# Altium footprint library JLCPCB_DIODE_Packages_SMD.PcbLib: 1 footprints
Each footprint in its own frame and in the unit in brackets; x right, y up, seen from the top. Pads: shape width x height; smd on the part's side, far side on the other; paste and mask are expansions set on the pad; w line width, h text height; cw(c..) or ccw(c..) is an arc to the next point about the centre after c.
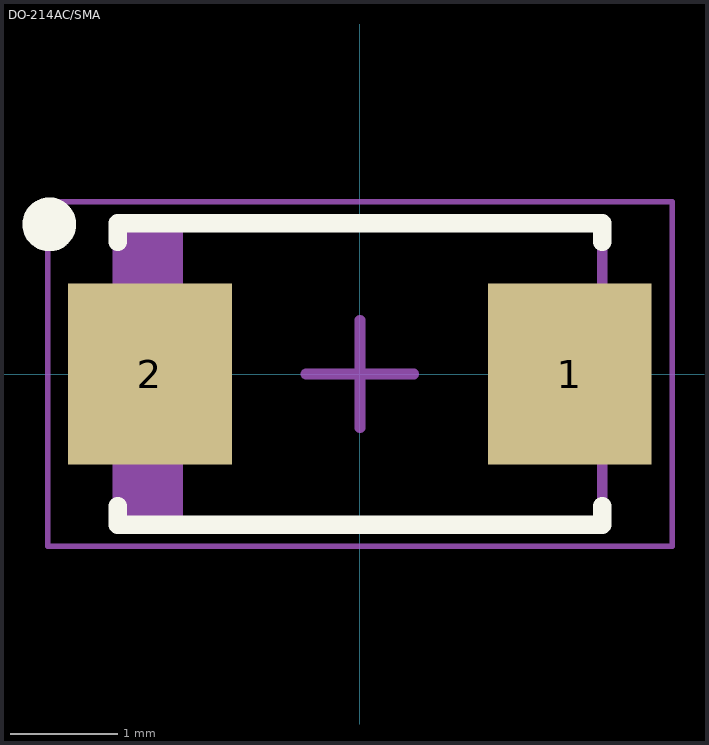
[diagram p0: the footprint, top view; thin cyan lines are the x and y axes]

## DO-214AC/SMA [mm] "Molded Diode, 2-Leads, Body 4,25x2,60mm, IPC Medium Density"
height 2.2
pads (2):
  rect 1.52x1.68 smd mask+0.055: 1(1.95,0) 2(-1.95,0)
Top Overlay:
  circle w0.25: c-2.885,1.39 r0.125
  lines w0.17: -2.25,-1.225 -2.25,-1.4 2.25,-1.4 2.25,-1.225 ; -2.25,1.225 -2.25,1.4 2.25,1.4 2.25,1.225
Mechanical 13:
  rectangle: -2.25,-1.4 -1.645,1.4
  lines w0.1: -2.25,-1.4 -2.25,1.4 2.25,1.4 2.25,-1.4 -2.25,-1.4
Mechanical 15:
  lines w0.05: -2.9,-1.6 -2.9,1.6 2.9,1.6 2.9,-1.6 -2.9,-1.6
  lines w0.1: -0.5,0 0.5,0 ; 0,-0.5 0,0.5
3D body: height 2.2, standoff 0, extent -2.25,-1.4 2.25,1.4